# EAGLE library part MODU24 (library lbm)
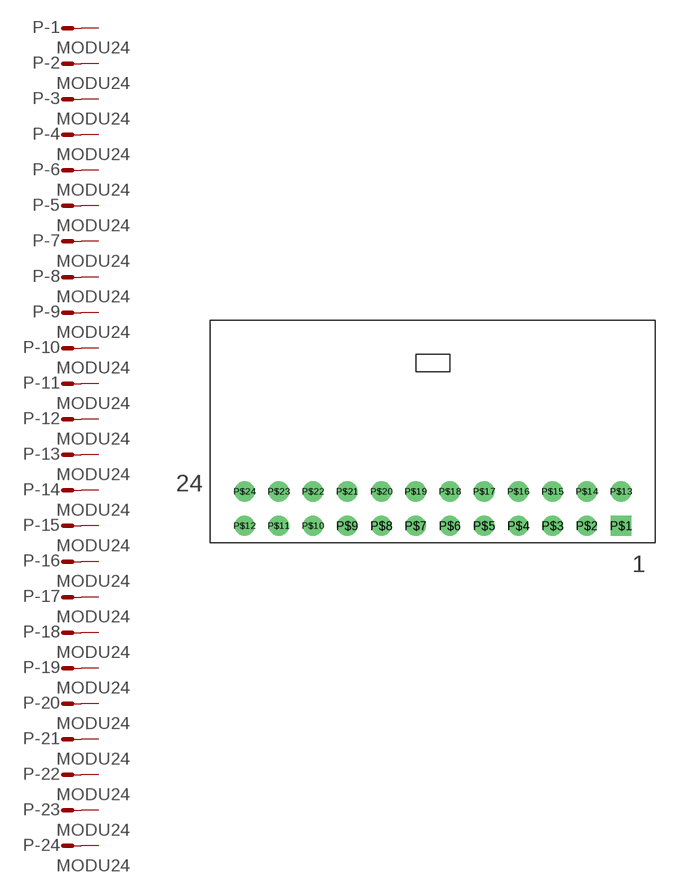
[diagram p4: symbol with the pads of MODU24; footprint MODU24]

Designator prefix P; gates -1=M -2=M -3=M -4=M -6=M -5=M -7=M -8=M -9=M -10=M -11=M -12=M -13=M -14=M -15=M -16=M -17=M -18=M -19=M -20=M -22=M -23=M -24=M -21=M

## MODU24  [MODU24]
P$1  -1:S  pas
P$2  -2:S  pas
P$3  -3:S  pas
P$4  -4:S  pas
P$5  -5:S  pas
P$6  -6:S  pas
P$7  -7:S  pas
P$8  -8:S  pas
P$9  -9:S  pas
P$10  -10:S  pas
P$11  -11:S  pas
P$12  -12:S  pas
P$13  -13:S  pas
P$14  -14:S  pas
P$15  -15:S  pas
P$16  -16:S  pas
P$17  -17:S  pas
P$18  -18:S  pas
P$19  -19:S  pas
P$20  -20:S  pas
P$21  -21:S  pas
P$22  -22:S  pas
P$23  -23:S  pas
P$24  -24:S  pas

## Footprint MODU24 (pad centres in mm)
drill 1 square: P$1 13.97,-3.81
drill 1 round: P$2 11.43,-3.81; P$3 8.89,-3.81; P$4 6.35,-3.81; P$5 3.81,-3.81; P$6 1.27,-3.81; P$7 -1.27,-3.81; P$8 -3.81,-3.81; P$9 -6.35,-3.81; P$10 -8.89,-3.81; P$11 -11.43,-3.81; P$12 -13.97,-3.81; P$13 13.97,-1.27; P$14 11.43,-1.27; P$15 8.89,-1.27; P$16 6.35,-1.27; P$17 3.81,-1.27; P$18 1.27,-1.27; P$19 -1.27,-1.27; P$20 -3.81,-1.27; P$21 -6.35,-1.27; P$22 -8.89,-1.27; P$23 -11.43,-1.27; P$24 -13.97,-1.27